# EAGLE library part MCP2210 (library custom)
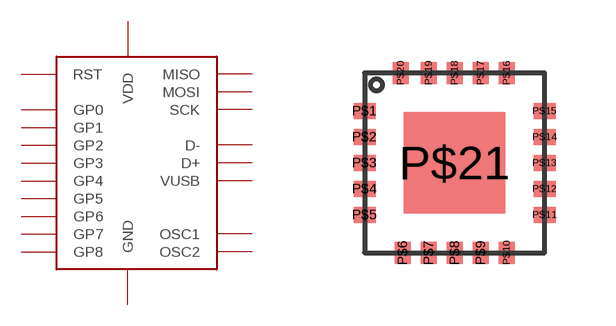
[diagram p0: symbol with the pads of QFN-20; footprint QFN-20]

Designator prefix -

## MCP2210  [QFN-20]
P$1  RST
P$2  GP0
P$3  GP1
P$4  GP2
P$5  GP3
P$6  MOSI
P$7  GP4
P$8  SCK
P$9  GP5
P$10  MISO
P$11  GP6
P$12  GP7
P$13  GP8
P$14  VUSB
P$15  D-
P$16  D+
P$17  GND
P$18  VDD
P$19  OSC1
P$20  OSC2
P$21  GND1

## Footprint QFN-20 (pad centres in mm)
smd 0.55 x 0.4: P$1 -2.25,1.3; P$2 -2.25,0.65; P$3 -2.25,0; P$4 -2.25,-0.65; P$5 -2.25,-1.3; P$11 2.25,-1.3; P$12 2.25,-0.65; P$13 2.25,0; P$14 2.25,0.65; P$15 2.25,1.3
smd 0.4 x 0.55: P$6 -1.3,-2.25; P$7 -0.65,-2.25; P$8 0,-2.25; P$9 0.65,-2.25; P$10 1.3,-2.25; P$16 1.3,2.25; P$17 0.65,2.25; P$18 0,2.25; P$19 -0.65,2.25; P$20 -1.35,2.25
smd 2.54 x 2.54: P$21 0,0